# Altium footprint library PcbLib1.PcbLib: 36 footprints (part 2 of 3)
Each footprint in its own frame and in the unit in brackets; x right, y up, seen from the top. Pads: shape width x height; smd on the part's side, far side on the other; paste and mask are expansions set on the pad; w line width, h text height; cw(c..) or ccw(c..) is an arc to the next point about the centre after c.
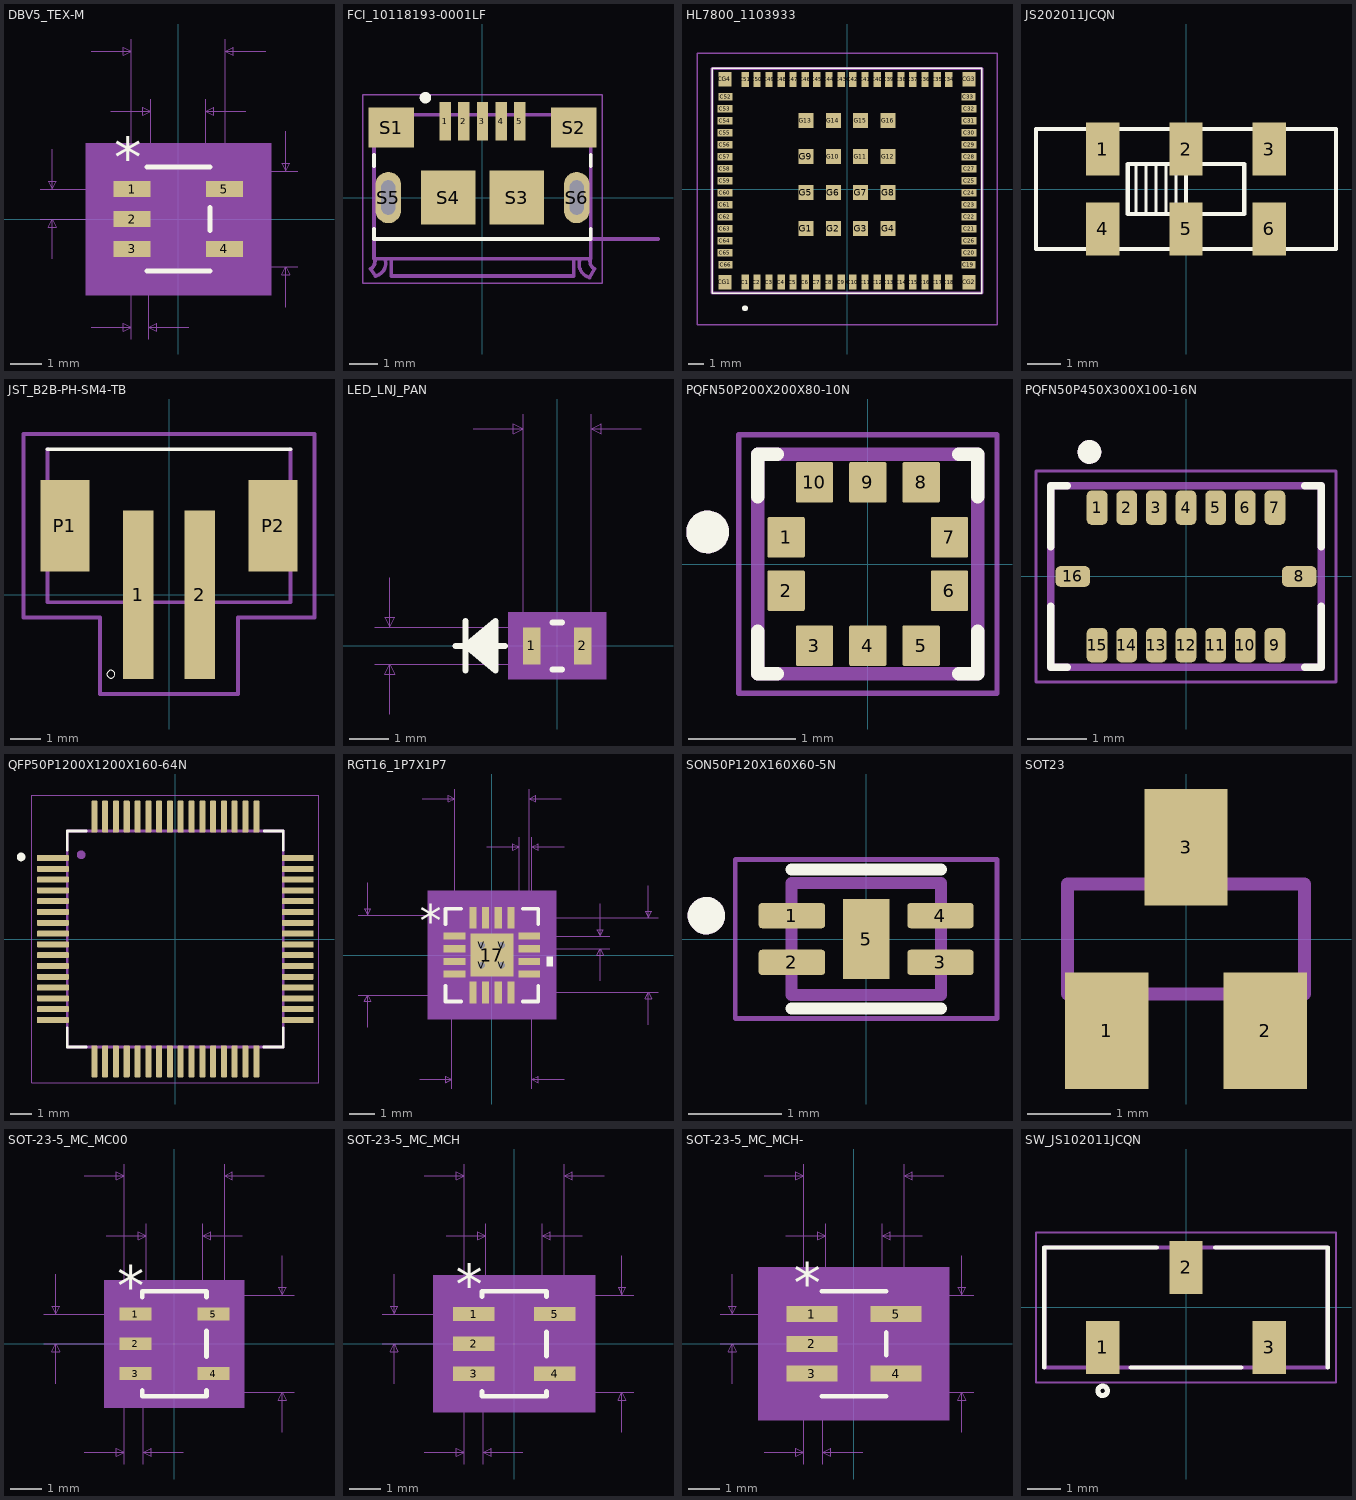
[diagram p1: the footprints below, top view; thin cyan lines are the x and y axes]

## DBV5_TEX-M [mil]
pads (5):
  rect 46.5x20 smd paste+0 mask+0: 1(-57.75,37.4) 2(-57.75,0) 3(-57.75,-37.4) 4(57.75,-37.4) 5(57.75,37.4)
Top Overlay:
  lines w6: -39.5,-65 39.5,-65 ; -39.5,65 39.5,65 ; 39.5,-14.3 39.5,14.3
  text "*" at -80.25,52.4 h50
Mechanical 5:
  region: 116,-95 -116,-95 -116,95 116,95
Mechanical 7:
  lines w1: -172.75,0 -57.75,0 ; -172.75,37.4 -57.75,37.4 ; -157.75,-50 -157.75,0 ; -157.75,87.4 -157.75,37.4 ; -109,-135 -59,-135 ; -109,210 -59,210 ; -84.5,135 -34.5,135 ; -59,-150 -59,0 -59,225 ; -37,-150 -37,0 ; -34.5,0 -34.5,150 ; 0,-60 149.5,-60 ; 0,60 149.5,60 ; 13,-135 -37,-135 ; 34.5,0 34.5,150 ; 59,0 59,225 ; 84.5,135 34.5,135 ; 109,210 59,210 ; 134.5,-110 134.5,-60 ; 134.5,110 134.5,60 ; -157.75,0 -162.75,-10 -152.75,-10 -157.75,0 ; -157.75,37.4 -162.75,47.4 -152.75,47.4 -157.75,37.4 ; -59,-135 -69,-130 -69,-140 -59,-135 ; -59,210 -69,215 -69,205 -59,210 ; -37,-135 -27,-130 -27,-140 -37,-135 ; -34.5,135 -44.5,140 -44.5,130 -34.5,135 ; 34.5,135 44.5,140 44.5,130 34.5,135 ; 59,210 69,215 69,205 59,210 ; 134.5,-60 129.5,-70 139.5,-70 134.5,-60 ; 134.5,60 129.5,70 139.5,70 134.5,60
  text "Default Padstyle: RX46p5Y20D0T" at -375,-260 h50
  text "Pin 1 Padstyle: RX46p5Y20D0T" at -350,-320 h50
  text "Alt 1 Padstyle: OX60Y90D30P" at -337.5,-500 h50
  text "Alt 2 Padstyle: OX90Y60D30P" at -337.5,-560 h50
  text "0.069in/1.753mm" at -93.75,155 h25
  text "0.118in/2.997mm" at -93.75,230 h25
  text "0.12in/3.048mm" at 154.5,-12.5 h25
  text "0.037in/0.95mm" at -352.75,6.2 h25
  text "0.022in/0.559mm" at -141.75,-180 h25
Mechanical 13:
  lines w0: -12,60 ccw(c0,60) 12,60
  lines w1: -59,-47.4 -59,-27.4 -34.5,-27.4 -34.5,-47.4 -59,-47.4 ; -59,-10 -59,10 -34.5,10 -34.5,-10 -59,-10 ; -59,27.4 -59,47.4 -34.5,47.4 -34.5,27.4 -59,27.4 ; -34.5,-60 34.5,-60 34.5,60 -34.5,60 -34.5,-60 ; 34.5,-47.4 34.5,-27.4 59,-27.4 59,-47.4 34.5,-47.4 ; 34.5,27.4 34.5,47.4 59,47.4 59,27.4 34.5,27.4
  text "*" at -37,14.4 h50
Mechanical 15:
  region: 54.5,-80 -54.5,-80 -54.5,-67.4 -101,-67.4 -101,67.4 -54.5,67.4 -54.5,80 54.5,80 54.5,67.4 101,67.4 101,-67.4 54.5,-67.4
  lines w6: -101,-67.4 -54.5,-67.4 -54.5,-80 54.5,-80 54.5,-67.4 101,-67.4 101,67.4 54.5,67.4 54.5,80 -54.5,80 -54.5,67.4 -101,67.4 -101,-67.4
3D body: height 10, standoff 0, extent 0,0 10,10

## FCI_10118193-0001LF [mm]
pads (13):
  rect 0.4x1.35 smd: 1(-1.3,2.675) 2(-0.65,2.675) 3(0,2.675) 4(0.65,2.675) 5(1.3,2.675)
  rect 1.6x1.4 smd: S1(-3.2,2.45) S2(3.2,2.45)
  rect 1.9x1.9 smd: S3(1.2,0) S4(-1.2,0)
  oval 0.9x1.8 hole 0.5 slot 1.2 at 90 deg: S5(-3.3,0) S6(3.3,0)
  round 0.5 hole 0.5 unplated: ""(-3.3,0) ""(3.3,0)
Top Overlay:
  circle w0.2: c-2,3.5 r0.1
  lines w0.127: -3.8,-1.45 3.8,-1.45 ; -3.8,-1.4 -3.8,-1.1 ; -3.8,1.1 -3.8,1.5 ; 3.8,-1.4 3.8,-1.1 ; 3.8,1.1 3.8,1.5
Mechanical 13:
  lines w0.127: -3.93,-2.5 -3.75,-2.75 ; -3.93,-2.5 ccw(c-4.065,-2.235) -3.8,-2.1 ; -3.746,-2.749 ccw(c-3.85,-2.3) -3.401,-2.196 ; -3.2,-2.2 -3.2,-2.75 3.2,-2.75 3.2,-2.2 ; 3.401,-2.198 ccw(c3.875,-2.325) 3.748,-2.799 ; 3.75,-2.8 3.93,-2.5 ; 3.8,-2.1 ccw(c4.065,-2.235) 3.93,-2.5 ; 6.15,-1.45 3.8,-1.45 ; -3.8,-2.1 -3.8,-2.15 3.8,-2.15 3.8,-1.45 ; -3.8,-2.1 -3.8,2.9 3.8,2.9 3.8,-1.45
  text "PCB END" at 4.75,-1.3 h0.41
Mechanical 15:
  lines w0.05: -4.2,-3 -4.2,3.6 4.2,3.6 4.2,-3 -4.2,-3

## HL7800_1103933 [mm]
pads (86):
  rect 0.5x1 smd: C1(-6.8,-6.215) C2(-6,-6.215) C3(-5.2,-6.215) C4(-4.4,-6.215) C5(-3.6,-6.215) C6(-2.8,-6.215) C7(-2,-6.215) C8(-1.2,-6.215) C9(-0.4,-6.215) C10(0.4,-6.215) C11(1.2,-6.215) C12(2,-6.215) C13(2.8,-6.215) C14(3.6,-6.215) C15(4.4,-6.215) C16(5.2,-6.215) C17(6,-6.215) C18(6.8,-6.215) C34(6.8,7.315) C35(6,7.315) C36(5.2,7.315) C37(4.4,7.315) C38(3.6,7.315) C39(2.8,7.315) C40(2,7.315) C41(1.2,7.315) C42(0.4,7.315) C43(-0.4,7.315) C44(-1.2,7.315) C45(-2,7.315) C46(-2.8,7.315) C47(-3.6,7.315) C48(-4.4,7.315) C49(-5.2,7.315) C50(-6,7.315) C51(-6.8,7.315)
  rect 0.92x0.5 smd: C19(8.1,-5.05) C33(8.1,6.15) C52(-8.1,6.15) C66(-8.1,-5.05)
  rect 1x0.5 smd: C20(8.14,-4.25) C21(8.14,-2.65) C22(8.14,-1.85) C23(8.14,-1.05) C24(8.14,-0.25) C25(8.14,0.55) C26(8.14,-3.45) C27(8.14,1.35) C28(8.14,2.15) C29(8.14,2.95) C30(8.14,3.75) C31(8.14,4.55) C32(8.14,5.35) C53(-8.14,5.35) C54(-8.14,4.55) C55(-8.14,3.75) C56(-8.14,2.95) C57(-8.14,2.15) C58(-8.14,1.35) C59(-8.14,0.55) C60(-8.14,-0.25) C61(-8.14,-1.05) C62(-8.14,-1.85) C63(-8.14,-2.65) C64(-8.14,-3.45) C65(-8.14,-4.25)
  rect 0.85x0.97 smd: CG1(-8.14,-6.215) CG2(8.14,-6.215) CG3(8.14,7.315) CG4(-8.14,7.315)
  rect 1x1 smd: G1(-2.737,-2.65) G2(-0.912,-2.65) G3(0.912,-2.65) G4(2.737,-2.65) G5(-2.737,-0.25) G6(-0.912,-0.25) G7(0.912,-0.25) G8(2.737,-0.25) G9(-2.737,2.15) G10(-0.912,2.15) G11(0.912,2.15) G12(2.737,2.15) G13(-2.737,4.55) G14(-0.912,4.55) G15(0.912,4.55) G16(2.737,4.55)
Top Overlay:
  lines w0.1: -9,-6.95 -9,8.05 9,8.05 9,-6.95 -9,-6.95
  lines w0.2: -6.9,-7.95 ccw(c-6.8,-7.95) -6.7,-7.95 ccw(c-6.8,-7.95) -6.9,-7.95
Mechanical 13:
  lines w0.2: -9,-6.95 -9,8.05 9,8.05 9,-6.95 -9,-6.95
Mechanical 15:
  lines w0.1: -10,-9.05 -10,9.05 10,9.05 10,-9.05 -10,-9.05
3D body "HL7800_1103933.stp": height 2.1, standoff 0, extent -9,-6.95 9,8.05

## JS202011JCQN [mm]
pads (6):
  rect 1x1.6 smd: 1(-2.5,1.2) 2(0,1.2) 3(2.5,1.2) 4(-2.5,-1.2) 5(0,-1.2) 6(2.5,-1.2)
Top Overlay:
  lines w0.09: -1.5,-0.75 -1.5,0.75 ; -1.2,-0.75 -1.2,0.75 ; -0.9,-0.75 -0.9,0.75 ; -0.6,-0.75 -0.6,0.75 ; -0.3,-0.75 -0.3,0.75
  lines w0.127: 0,-0.75 0,0.75 ; 0,-0.75 -0.3,-0.75 -0.6,-0.75 -0.9,-0.75 -1.2,-0.75 -1.5,-0.75 -1.75,-0.75 -1.75,0.75 -1.5,0.75 -1.2,0.75 -0.9,0.75 -0.6,0.75 -0.3,0.75 0,0.75 ; 0,-0.75 1.75,-0.75 1.75,0.75 0,0.75 ; -4.5,-1.8 4.5,-1.8 4.5,1.8 -4.5,1.8 -4.5,-1.8

## JST_B2B-PH-SM4-TB [mm]
pads (4):
  rect 1x5.5 smd: 1(-1,0) 2(1,0)
  rect 1.6x3 smd: P1(-3.4,2.25) P2(3.4,2.25)
Top Overlay:
  circle w0: c-1.9,-2.6 r0.127
  lines w0.127: -3.975,4.75 3.975,4.75
Mechanical 13:
  lines w0.127: -3.975,4.75 -3.975,-0.25 3.975,-0.25 3.975,4.75
Mechanical 15:
  lines w0.127: -4.75,-0.75 -4.75,5.25 4.75,5.25 4.75,-0.75 2.25,-0.75 2.25,-3.25 -2.25,-3.25 -2.25,-0.75 -4.75,-0.75
3D body "B2B-PH-SM4-TB(LF)(SN)--3DModel-STEP-56544.STEP": height 6.73, standoff -0.02, extent -3.95,-2.163 4,4.837

## LED_LNJ_PAN [mm] "blue"
pads (2):
  rect 0.445x0.95 smd paste+0 mask+0: 1(-0.653,0) 2(0.653,0)
Top Overlay:
  lines w0.152: -2.602,0 -1.332,0 ; -2.348,-0.635 -2.348,0.635 ; -1.586,-0.508 -2.348,0 ; -1.586,-0.381 -2.348,0 ; -1.586,-0.254 -2.348,0 ; -1.586,-0.127 -2.348,0 ; -1.586,0.127 -2.348,0 ; -1.586,0.254 -2.348,0 ; -1.586,0.381 -2.348,0 ; -1.586,0.508 -2.348,0 ; -0.122,-0.602 0.122,-0.602 ; -0.122,0.602 0.122,0.602 ; -2.348,0 -1.586,-0.635 -1.586,0.635 -2.348,0
Mechanical 5:
  region: 1.256,-0.856 -1.256,-0.856 -1.256,0.856 1.256,0.856
Mechanical 7:
  lines w0.025: -4.666,-0.475 1.129,-0.475 ; -4.666,0.475 1.129,0.475 ; -4.285,-1.745 -4.285,-0.475 ; -4.285,1.745 -4.285,0.475 ; -2.145,5.555 -0.875,5.555 ; -0.875,0.729 -0.875,5.936 ; 0.875,0.729 0.875,5.936 ; 2.145,5.555 0.875,5.555 ; -4.285,-0.475 -4.158,-0.729 -4.412,-0.729 -4.285,-0.475 ; -4.285,0.475 -4.158,0.729 -4.412,0.729 -4.285,0.475 ; -0.875,5.555 -1.129,5.428 -1.129,5.682 -0.875,5.555 ; 0.875,5.555 1.129,5.428 1.129,5.682 0.875,5.555
  text "0.037in/0.95mm" at -9.238,-0.318 h0.64
  text "0.069in/1.75mm" at -2.222,6.063 h0.64
  text "Alt 2 Pad Style: EX90Y60D30P" at -8.89,-8.349 h1.27
  text "Alt 1 Pad Style: OX60Y90D30P" at -8.89,-7.079 h1.27
  text "Default Pad Style: RX17p52Y37p4D0T" at -10.795,-5.809 h1.27
Mechanical 13:
  lines w0.025: -2.602,0 -1.332,0 ; -2.348,-0.635 -2.348,0.635 ; -1.586,-0.508 -2.348,0 ; -1.586,-0.381 -2.348,0 ; -1.586,-0.254 -2.348,0 ; -1.586,-0.127 -2.348,0 ; -1.586,0.127 -2.348,0 ; -1.586,0.254 -2.348,0 ; -1.586,0.381 -2.348,0 ; -1.586,0.508 -2.348,0 ; -2.348,0 -1.586,-0.635 -1.586,0.635 -2.348,0 ; -0.875,-0.475 -0.875,0.475 0.875,0.475 0.875,-0.475 -0.875,-0.475
Mechanical 15:
  region: -1.129,-0.729 -1.129,0.729 1.129,0.729 1.129,-0.729
  lines w0.152: -1.129,-0.729 1.129,-0.729 1.129,0.729 -1.129,0.729 -1.129,-0.729
3D body: height 0.25, standoff 0, extent 0,0 0.254,0.254
3D body "LTST-C190KRKT--3DModel-STEP-56544.STEP": height 0.8, standoff 0, extent -0.8,-0.4 0.8,0.4

## PQFN50P200X200X80-10N [mm]
pads (10):
  rrect9% 0.35x0.38 smd: 1(-0.765,0.25) 2(-0.765,-0.25) 3(-0.5,-0.765) 4(0,-0.765) 5(0.5,-0.765) 6(0.765,-0.25) 7(0.765,0.25) 8(0.5,0.765) 9(0,0.765) 10(-0.5,0.765)
Top Overlay:
  circle w0.2: c-1.5,0.3 r0.1
  lines w0.127: -1.03,-0.63 -1.03,-1.03 -0.85,-1.03 ; -1.03,0.63 -1.03,1.03 -0.85,1.03 ; 0.85,-1.03 1.03,-1.03 1.03,-0.63 ; 0.85,1.03 1.03,1.03 1.03,0.63
Mechanical 13:
  circle w0.2: c-1.5,0.3 r0.1
  lines w0.127: -1.03,-1.03 1.03,-1.03 1.03,1.03 -1.03,1.03 -1.03,-1.03
Mechanical 15:
  lines w0.05: -1.21,-1.21 1.21,-1.21 1.21,1.21 -1.21,1.21 -1.21,-1.21
3D body "BMP388--3DModel-STEP-56544.STEP": height 0.8, standoff 0, extent -1,-0.991 1,1.009

## PQFN50P450X300X100-16N [mm]
pads (16):
  rrect50% 0.35x0.58 smd: 1(-1.5,1.16) 2(-1,1.16) 3(-0.5,1.16) 4(0,1.16) 5(0.5,1.16) 6(1,1.16) 7(1.5,1.16) 9(1.5,-1.16) 10(1,-1.16) 11(0.5,-1.16) 12(0,-1.16) 13(-0.5,-1.16) 14(-1,-1.16) 15(-1.5,-1.16)
  rrect50% 0.58x0.35 smd: 8(1.91,0) 16(-1.91,0)
Top Overlay:
  circle w0.2: c-1.629,2.1 r0.1
  lines w0.127: -2.28,-0.5 -2.28,-1.53 -2,-1.53 ; -2.28,0.5 -2.28,1.53 -2,1.53 ; 2,-1.53 2.28,-1.53 2.28,-0.5 ; 2,1.53 2.28,1.53 2.28,0.5
Mechanical 13:
  circle w0.2: c-1.629,2.1 r0.1
  lines w0.127: -2.28,-1.53 -2.28,1.53 2.28,1.53 2.28,-1.53 -2.28,-1.53
Mechanical 15:
  lines w0.05: -2.53,-1.78 -2.53,1.78 2.53,1.78 2.53,-1.78 -2.53,-1.78
3D body "BMI088--3DModel-STEP-56544.STEP": height 1, standoff 0, extent -2.25,-1.5 2.25,1.5

## QFP50P1200X1200X160-64N [mm]
pads (64):
  rrect25% 1.47x0.28 smd: 1(-5.67,3.75) 2(-5.67,3.25) 3(-5.67,2.75) 4(-5.67,2.25) 5(-5.67,1.75) 6(-5.67,1.25) 7(-5.67,0.75) 8(-5.67,0.25) 9(-5.67,-0.25) 10(-5.67,-0.75) 11(-5.67,-1.25) 12(-5.67,-1.75) 13(-5.67,-2.25) 14(-5.67,-2.75) 15(-5.67,-3.25) 16(-5.67,-3.75) 33(5.67,-3.75) 34(5.67,-3.25) 35(5.67,-2.75) 36(5.67,-2.25) 37(5.67,-1.75) 38(5.67,-1.25) 39(5.67,-0.75) 40(5.67,-0.25) 41(5.67,0.25) 42(5.67,0.75) 43(5.67,1.25) 44(5.67,1.75) 45(5.67,2.25) 46(5.67,2.75) 47(5.67,3.25) 48(5.67,3.75)
  rrect25% 0.28x1.47 smd: 17(-3.75,-5.67) 18(-3.25,-5.67) 19(-2.75,-5.67) 20(-2.25,-5.67) 21(-1.75,-5.67) 22(-1.25,-5.67) 23(-0.75,-5.67) 24(-0.25,-5.67) 25(0.25,-5.67) 26(0.75,-5.67) 27(1.25,-5.67) 28(1.75,-5.67) 29(2.25,-5.67) 30(2.75,-5.67) 31(3.25,-5.67) 32(3.75,-5.67) 49(3.75,5.67) 50(3.25,5.67) 51(2.75,5.67) 52(2.25,5.67) 53(1.75,5.67) 54(1.25,5.67) 55(0.75,5.67) 56(0.25,5.67) 57(-0.25,5.67) 58(-0.75,5.67) 59(-1.25,5.67) 60(-1.75,5.67) 61(-2.25,5.67) 62(-2.75,5.67) 63(-3.25,5.67) 64(-3.75,5.67)
Top Overlay:
  circle w0.2: c-7.14,3.8 r0.1
  lines w0.127: -5,-4.125 -5,-5 -4.125,-5 ; -5,4.125 -5,5 -4.125,5 ; 4.092,-5 5,-5 5,-4.125 ; 4.125,5 5,5 5,4.125
Mechanical 13:
  circle w0.2: c-4.36,3.9 r0.1
  lines w0.127: -5,-5 5,-5 5,5 -5,5 -5,-5
Mechanical 15:
  lines w0.05: -6.655,-6.655 6.655,-6.655 6.655,6.655 -6.655,6.655 -6.655,-6.655
3D body "STM32F446RET6--3DModel-STEP-56544.STEP": height 1.61, standoff 0.01, extent -6,-6 6,6

## RGT16_1P7X1P7 [mm]
pads (21):
  rect 0.85x0.28 smd paste-0.14: 1(-1.475,0.75) 2(-1.475,0.25) 3(-1.475,-0.25) 4(-1.475,-0.75) 9(1.475,-0.75) 10(1.475,-0.25) 11(1.475,0.25) 12(1.475,0.75)
  rect 0.28x0.85 smd paste-0.14: 5(-0.75,-1.475) 6(-0.25,-1.475) 7(0.25,-1.475) 8(0.75,-1.475) 13(0.75,1.475) 14(0.25,1.475) 15(-0.25,1.475) 16(-0.75,1.475)
  rect 1.7x1.7 smd paste-0.837 mask-0.838: 17(0,0)
  round 0.508 hole 0.254: V(-0.394,-0.394) V(-0.394,0.394) V(0.394,-0.394) V(0.394,0.394)
Top Overlay:
  region: 2.154,-0.059 2.408,-0.059 2.408,-0.44 2.154,-0.44
  lines w0.152: -1.829,-1.223 -1.829,-1.829 -1.223,-1.829 ; -1.829,1.223 -1.829,1.829 -1.223,1.829 ; 1.223,-1.829 1.829,-1.829 1.829,-1.223 ; 1.223,1.829 1.829,1.829 1.829,1.223
  text "*" at -2.852,0.746 h1.27
Top Paste:
  region: -1.075,0.865 -1.875,0.865 -1.875,0.635 -1.075,0.635
  region: -1.075,0.365 -1.875,0.365 -1.875,0.135 -1.075,0.135
  region: -1.075,-0.135 -1.875,-0.135 -1.875,-0.365 -1.075,-0.365
  region: -1.075,-0.635 -1.875,-0.635 -1.875,-0.865 -1.075,-0.865
  region: -0.635,-1.075 -0.865,-1.075 -0.865,-1.875 -0.635,-1.875
  region: -0.135,-1.075 -0.365,-1.075 -0.365,-1.875 -0.135,-1.875
  region: 0.365,-1.075 0.135,-1.075 0.135,-1.875 0.365,-1.875
  region: 0.865,-1.075 0.635,-1.075 0.635,-1.875 0.865,-1.875
  region: 1.875,-0.635 1.075,-0.635 1.075,-0.865 1.875,-0.865
  region: 1.875,-0.135 1.075,-0.135 1.075,-0.365 1.875,-0.365
  region: 1.875,0.365 1.075,0.365 1.075,0.135 1.875,0.135
  region: 1.875,0.865 1.075,0.865 1.075,0.635 1.875,0.635
  region: 0.865,1.875 0.635,1.875 0.635,1.075 0.865,1.075
  region: 0.365,1.875 0.135,1.875 0.135,1.075 0.365,1.075
  region: -0.135,1.875 -0.365,1.875 -0.365,1.075 -0.135,1.075
  region: -0.635,1.875 -0.865,1.875 -0.865,1.075 -0.635,1.075
  region: -0.494,0.775 -0.775,0.775 -0.775,0.494 -0.635,0.494 -0.494,0.635
  region: -0.635,0.294 -0.775,0.294 -0.775,-0.294 -0.635,-0.294 -0.494,-0.152 -0.494,0.152
  region: -0.635,-0.494 -0.775,-0.494 -0.775,-0.775 -0.494,-0.775 -0.494,-0.635
  region: 0.294,0.775 -0.294,0.775 -0.294,0.635 -0.152,0.494 0.152,0.494 0.294,0.635
  region: 0.152,0.294 -0.152,0.294 -0.294,0.152 -0.294,-0.152 -0.152,-0.294 0.152,-0.294 0.294,-0.152 0.294,0.152
  region: 0.152,-0.494 -0.152,-0.494 -0.294,-0.635 -0.294,-0.775 0.294,-0.775 0.294,-0.635
  region: 0.775,0.775 0.494,0.775 0.494,0.635 0.635,0.494 0.775,0.494
  region: 0.775,0.294 0.635,0.294 0.494,0.152 0.494,-0.152 0.635,-0.294 0.775,-0.294
  region: 0.775,-0.494 0.635,-0.494 0.494,-0.635 0.494,-0.775 0.775,-0.775
Top Solder:
  region: -0.98,0.96 -1.97,0.96 -1.97,0.54 -0.98,0.54
  region: -0.98,0.46 -1.97,0.46 -1.97,0.04 -0.98,0.04
  region: -0.98,-0.04 -1.97,-0.04 -1.97,-0.46 -0.98,-0.46
  region: -0.98,-0.54 -1.97,-0.54 -1.97,-0.96 -0.98,-0.96
  region: -0.541,-0.98 -0.96,-0.98 -0.96,-1.97 -0.541,-1.97
  region: -0.04,-0.98 -0.46,-0.98 -0.46,-1.97 -0.04,-1.97
  region: 0.46,-0.98 0.04,-0.98 0.04,-1.97 0.46,-1.97
  region: 0.96,-0.98 0.541,-0.98 0.541,-1.97 0.96,-1.97
  region: 1.97,-0.54 0.98,-0.54 0.98,-0.96 1.97,-0.96
  region: 1.97,-0.04 0.98,-0.04 0.98,-0.46 1.97,-0.46
  region: 1.97,0.46 0.98,0.46 0.98,0.04 1.97,0.04
  region: 1.97,0.96 0.98,0.96 0.98,0.54 1.97,0.54
  region: 0.96,1.97 0.541,1.97 0.541,0.98 0.96,0.98
  region: 0.46,1.97 0.04,1.97 0.04,0.98 0.46,0.98
  region: -0.04,1.97 -0.46,1.97 -0.46,0.98 -0.04,0.98
  region: -0.541,1.97 -0.96,1.97 -0.96,0.98 -0.541,0.98
  region: -0.914,0.594 -0.914,0.914 0.914,0.914 0.914,0.594
  region: -0.914,-0.194 -0.914,0.194 0.914,0.194 0.914,-0.194
  region: -0.914,-0.914 -0.914,-0.594 0.914,-0.594 0.914,-0.914
  region: -0.914,-0.914 -0.914,0.914 -0.594,0.914 -0.594,-0.914
  region: 0.194,-0.914 0.194,0.914 -0.194,0.914 -0.194,-0.914
  region: 0.594,-0.914 0.594,0.914 0.914,0.914 0.914,-0.914
Mechanical 5:
  region: 2.535,-2.535 -2.535,-2.535 -2.535,2.535 2.535,2.535
Mechanical 7:
  lines w0.025: -5.281,-1.575 1.575,-1.575 ; -5.281,1.575 1.575,1.575 1.575,-5.281 ; -4.9,-2.845 -4.9,-1.575 ; -4.9,2.845 -4.9,1.575 ; -2.845,-4.9 -1.575,-4.9 ; -2.745,6.17 -1.475,6.17 ; -1.575,-5.281 -1.575,1.575 ; -1.475,0.75 -1.475,6.551 ; -0.195,4.265 1.075,4.265 ; 0.75,-1.475 6.551,-1.475 ; 0.75,1.475 6.551,1.475 ; 1.075,0.75 1.075,4.646 ; 1.475,0.25 4.646,0.25 ; 1.475,6.551 1.475,0.75 4.646,0.75 ; 1.575,0.75 1.575,4.646 ; 2.745,6.17 1.475,6.17 ; 2.845,-4.9 1.575,-4.9 ; 2.845,4.265 1.575,4.265 ; 4.265,-1.02 4.265,0.25 ; 4.265,2.02 4.265,0.75 ; 6.17,-2.745 6.17,-1.475 ; 6.17,2.745 6.17,1.475 ; -4.9,-1.575 -5.027,-1.829 -4.773,-1.829 -4.9,-1.575 ; -4.9,1.575 -5.027,1.829 -4.773,1.829 -4.9,1.575 ; -1.575,-4.9 -1.829,-4.773 -1.829,-5.027 -1.575,-4.9 ; -1.475,6.17 -1.729,6.297 -1.729,6.043 -1.475,6.17 ; 1.075,4.265 0.821,4.392 0.821,4.138 1.075,4.265 ; 1.475,6.17 1.729,6.297 1.729,6.043 1.475,6.17 ; 1.575,-4.9 1.829,-4.773 1.829,-5.027 1.575,-4.9 ; 1.575,4.265 1.829,4.392 1.829,4.138 1.575,4.265 ; 4.265,0.25 4.138,-0.004 4.392,-0.004 4.265,0.25 ; 4.265,0.75 4.138,1.004 4.392,1.004 4.265,0.75 ; 6.17,-1.475 6.043,-1.729 6.297,-1.729 6.17,-1.475 ; 6.17,1.475 6.043,1.729 6.297,1.729 6.17,1.475
  text "Default Padstyle: RX11p02Y33p46D0T" at -10.795,-8.075 h1.27
  text "Alt 1 Padstyle: OX60Y90D30P" at -8.572,-10.615 h1.27
  text "Alt 2 Padstyle: OX90Y60D30P" at -8.572,-13.155 h1.27
  text "1.968504E-02in/.5mm" at 4.773,0.182 h0.64
  text "1.968504E-02in/.5mm" at -1.691,4.773 h0.64
  text ".1161417in/2.95mm" at -2.699,6.678 h0.64
  text ".1161417in/2.95mm" at 6.678,-0.318 h0.64
  text ".1240157in/3.15mm" at -10.806,-0.318 h0.64
  text ".1240157in/3.15mm" at -2.699,-6.043 h0.64
Mechanical 13:
  lines w0.025: -1.575,0.305 -0.305,1.575 ; -1.575,-1.575 1.575,-1.575 1.575,1.575 -1.575,1.575 -1.575,-1.575 ; -1.575,-0.9 -1.575,-0.6 -1.575,-0.9 ; -1.575,-0.4 -1.575,-0.1 -1.575,-0.4 ; -1.575,0.1 -1.575,0.4 -1.575,0.1 ; -1.575,0.6 -1.575,0.9 -1.575,0.6 ; -0.9,-1.575 -0.6,-1.575 -0.9,-1.575 ; -0.9,1.575 -0.6,1.575 -0.9,1.575 ; -0.4,-1.575 -0.1,-1.575 -0.4,-1.575 ; -0.4,1.575 -0.1,1.575 -0.4,1.575 ; 0.1,-1.575 0.4,-1.575 0.1,-1.575 ; 0.1,1.575 0.4,1.575 0.1,1.575 ; 0.6,-1.575 0.9,-1.575 0.6,-1.575 ; 0.6,1.575 0.9,1.575 0.6,1.575 ; 1.575,-0.9 1.575,-0.6 1.575,-0.9 ; 1.575,-0.4 1.575,-0.1 1.575,-0.4 ; 1.575,0.1 1.575,0.4 1.575,0.1 ; 1.575,0.6 1.575,0.9 1.575,0.6
  text "*" at -2.852,0.746 h1.27
Mechanical 15:
  region: 2.154,-2.154 -2.154,-2.154 -2.154,2.154 2.154,2.154
  lines w0.152: -2.154,-2.154 -2.154,2.154 2.154,2.154 2.154,-2.154 -2.154,-2.154
3D body: height 0.25, standoff 0, extent 0,0 0.254,0.254
3D body "RGT0016C.stp": height 1, standoff 0, extent -1.5,-1.525 1.5,1.475

## SON50P120X160X60-5N [mm]
pads (5):
  rrect25% 0.71x0.27 smd: 1(-0.795,0.25) 2(-0.795,-0.25) 3(0.795,-0.25) 4(0.795,0.25)
  rect 0.5x0.86 smd paste-1: 5(0,0)
Top Overlay:
  circle w0.2: c-1.71,0.25 r0.1
  lines w0.127: -0.8,-0.744 0.8,-0.744 ; -0.8,0.744 0.8,0.744
Top Paste:
  region: 0.16,-0.27 -0.16,-0.27 -0.16,0.27 0.16,0.27
Mechanical 13:
  circle w0.2: c-1.71,0.25 r0.1
  lines w0.127: -0.8,-0.6 -0.8,0.6 0.8,0.6 0.8,-0.6 -0.8,-0.6
Mechanical 15:
  lines w0.05: -1.4,-0.85 -1.4,0.85 1.4,0.85 1.4,-0.85 -1.4,-0.85
3D body "SIP32432DNP3-T1GE4--3DModel-STEP-56544.STEP": height 0.55, standoff -0.05, extent -0.814,-0.6 0.786,0.6

## SOT23 [mm]
pads (3):
  rect 1x1.4 smd: 1(-0.95,-1.1) 2(0.95,-1.1) 3(0,1.1)
Mechanical 13:
  region: 0.229,0.711 -0.229,0.711 -0.229,1.295 0.229,1.295
  region: 1.168,-1.297 0.712,-1.297 0.712,-0.711 1.168,-0.711
  region: -0.711,-1.297 -1.17,-1.297 -1.17,-0.711 -0.711,-0.711
  lines w0.152: -1.422,-0.66 1.422,-0.66 1.422,0.66 -1.422,0.66 -1.422,-0.66
3D body "2N7002--3DModel-STEP-56544.STEP": height 1.24, standoff -0.01, extent -1.463,-1.527 1.463,1.273

## SOT-23-5_MC_MC00 [mil]
pads (5):
  rect 40x16 smd paste+0 mask+0: 1(-49,37.4) 2(-49,0) 3(-49,-37.4) 4(49,-37.4) 5(49,37.4)
Top Overlay:
  lines w6: -40.5,-58.5 -40.5,-66 40.5,-66 40.5,-58.5 ; -40.5,58.5 -40.5,66 40.5,66 40.5,58.5 ; 40.5,-16.3 40.5,16.3
  text "*" at -71.5,48.4 h50
Mechanical 5:
  region: 88,-80 -88,-80 -88,80 88,80
Mechanical 7:
  lines w1: -164,0 -49,0 ; -164,37.4 -49,37.4 ; -149,-50 -149,0 ; -149,87.4 -149,37.4 ; -113,-136 -63,-136 ; -113,211 -63,211 ; -85.5,136 -35.5,136 ; -63,-151 -63,0 -63,226 ; -39,-151 -39,0 ; -35.5,0 -35.5,151 ; 0,-61 150.5,-61 ; 0,61 150.5,61 ; 11,-136 -39,-136 ; 35.5,0 35.5,151 ; 63,0 63,226 ; 85.5,136 35.5,136 ; 113,211 63,211 ; 135.5,-111 135.5,-61 ; 135.5,111 135.5,61 ; -149,0 -144,-10 -154,-10 -149,0 ; -149,37.4 -144,47.4 -154,47.4 -149,37.4 ; -63,-136 -73,-141 -73,-131 -63,-136 ; -63,211 -73,206 -73,216 -63,211 ; -39,-136 -29,-141 -29,-131 -39,-136 ; -35.5,136 -45.5,131 -45.5,141 -35.5,136 ; 35.5,136 45.5,131 45.5,141 35.5,136 ; 63,211 73,206 73,216 63,211 ; 135.5,-61 140.5,-71 130.5,-71 135.5,-61 ; 135.5,61 140.5,71 130.5,71 135.5,61
  text "0.024in/0.61mm" at -138.5,-181 h25
  text "0.037in/0.95mm" at -344,6.2 h25
  text "0.122in/3.099mm" at 155.5,-12.5 h25
  text "0.126in/3.2mm" at -81.25,231 h25
  text "0.071in/1.803mm" at -93.75,156 h25
  text "Alt 2 Padstyle: OX90Y60D30P" at -337.5,-561 h50
  text "Alt 1 Padstyle: OX60Y90D30P" at -337.5,-501 h50
  text "Pin 1 Padstyle: RX40Y16D0T" at -325,-321 h50
  text "Default Padstyle: RX40Y16D0T" at -350,-261 h50
Mechanical 13:
  lines w0: -12,61 ccw(c0,61) 12,61
  lines w1: -63,-47.4 -35.5,-47.4 -35.5,-27.4 -63,-27.4 -63,-47.4 ; -63,-10 -35.5,-10 -35.5,10 -63,10 -63,-10 ; -63,27.4 -35.5,27.4 -35.5,47.4 -63,47.4 -63,27.4 ; -35.5,-61 -35.5,61 35.5,61 35.5,-61 -35.5,-61 ; 35.5,-47.4 63,-47.4 63,-27.4 35.5,-27.4 35.5,-47.4 ; 35.5,27.4 63,27.4 63,47.4 35.5,47.4 35.5,27.4
  text "*" at -38,10.4 h50
Mechanical 15:
  region: 39.5,-65 -39.5,-65 -39.5,-49.4 -73,-49.4 -73,49.4 -39.5,49.4 -39.5,65 39.5,65 39.5,49.4 73,49.4 73,-49.4 39.5,-49.4
  lines w6: -73,-49.4 -73,49.4 -39.5,49.4 -39.5,65 39.5,65 39.5,49.4 73,49.4 73,-49.4 39.5,-49.4 39.5,-65 -39.5,-65 -39.5,-49.4 -73,-49.4
3D body: height 10, standoff 0, extent 0,0 10,10

## SOT-23-5_MC_MCH [mil]
pads (5):
  rect 52x18 smd paste+0 mask+0: 1(-51,37.4) 2(-51,0) 3(-51,-37.4) 4(51,-37.4) 5(51,37.4)
Top Overlay:
  lines w6: -40.5,-59.5 -40.5,-66 40.5,-66 40.5,-59.5 ; -40.5,59.5 -40.5,66 40.5,66 40.5,59.5 ; 40.5,-15.3 40.5,15.3
  text "*" at -73.5,50.4 h50
Mechanical 5:
  region: 102,-86 -102,-86 -102,86 102,86
Mechanical 7:
  lines w1: -166,0 -51,0 ; -166,37.4 -51,37.4 ; -151,-50 -151,0 ; -151,87.4 -151,37.4 ; -113,-136 -63,-136 ; -113,211 -63,211 ; -85.5,136 -35.5,136 ; -63,-151 -63,0 -63,226 ; -39,-151 -39,0 ; -35.5,0 -35.5,151 ; 0,-61 150.5,-61 ; 0,61 150.5,61 ; 11,-136 -39,-136 ; 35.5,0 35.5,151 ; 63,0 63,226 ; 85.5,136 35.5,136 ; 113,211 63,211 ; 135.5,-111 135.5,-61 ; 135.5,111 135.5,61 ; -151,0 -146,-10 -156,-10 -151,0 ; -151,37.4 -146,47.4 -156,47.4 -151,37.4 ; -63,-136 -73,-141 -73,-131 -63,-136 ; -63,211 -73,206 -73,216 -63,211 ; -39,-136 -29,-141 -29,-131 -39,-136 ; -35.5,136 -45.5,131 -45.5,141 -35.5,136 ; 35.5,136 45.5,131 45.5,141 35.5,136 ; 63,211 73,206 73,216 63,211 ; 135.5,-61 140.5,-71 130.5,-71 135.5,-61 ; 135.5,61 140.5,71 130.5,71 135.5,61
  text "0.024in/0.61mm" at -138.5,-181 h25
  text "0.037in/0.95mm" at -346,6.2 h25
  text "0.122in/3.099mm" at 155.5,-12.5 h25
  text "0.126in/3.2mm" at -81.25,231 h25
  text "0.071in/1.803mm" at -93.75,156 h25
  text "Alt 2 Padstyle: OX90Y60D30P" at -337.5,-561 h50
  text "Alt 1 Padstyle: OX60Y90D30P" at -337.5,-501 h50
  text "Pin 1 Padstyle: RX52Y18D0T" at -325,-321 h50
  text "Default Padstyle: RX52Y18D0T" at -350,-261 h50
Mechanical 13:
  lines w0: -12,61 ccw(c0,61) 12,61
  lines w1: -63,-47.4 -35.5,-47.4 -35.5,-27.4 -63,-27.4 -63,-47.4 ; -63,-10 -35.5,-10 -35.5,10 -63,10 -63,-10 ; -63,27.4 -35.5,27.4 -35.5,47.4 -63,47.4 -63,27.4 ; -35.5,-61 -35.5,61 35.5,61 35.5,-61 -35.5,-61 ; 35.5,-47.4 63,-47.4 63,-27.4 35.5,-27.4 35.5,-47.4 ; 35.5,27.4 63,27.4 63,47.4 35.5,47.4 35.5,27.4
  text "*" at -38,12.4 h50
Mechanical 15:
  region: 45.5,-71 -45.5,-71 -45.5,-56.4 -87,-56.4 -87,56.4 -45.5,56.4 -45.5,71 45.5,71 45.5,56.4 87,56.4 87,-56.4 45.5,-56.4
  lines w6: -87,-56.4 -87,56.4 -45.5,56.4 -45.5,71 45.5,71 45.5,56.4 87,56.4 87,-56.4 45.5,-56.4 45.5,-71 -45.5,-71 -45.5,-56.4 -87,-56.4
3D body "SOT-23-5_MC_MCH-M.step": height 57.09, standoff 0, extent -61.99,-60.98 64,61

## SOT-23-5_MC_MCH- [mil]
pads (5):
  rect 64x20 smd paste+0 mask+0: 1(-53,37.4) 2(-53,0) 3(-53,-37.4) 4(53,-37.4) 5(53,37.4)
Top Overlay:
  lines w6: -40.5,-66 40.5,-66 ; -40.5,66 40.5,66 ; 40.5,-14.3 40.5,14.3
  text "*" at -75.5,52.4 h50
Mechanical 5:
  region: 120,-96 -120,-96 -120,96 120,96
Mechanical 7:
  lines w1: -168,0 -53,0 ; -168,37.4 -53,37.4 ; -153,-50 -153,0 ; -153,87.4 -153,37.4 ; -113,-136 -63,-136 ; -113,211 -63,211 ; -85.5,136 -35.5,136 ; -63,-151 -63,0 -63,226 ; -39,-151 -39,0 ; -35.5,0 -35.5,151 ; 0,-61 150.5,-61 ; 0,61 150.5,61 ; 11,-136 -39,-136 ; 35.5,0 35.5,151 ; 63,0 63,226 ; 85.5,136 35.5,136 ; 113,211 63,211 ; 135.5,-111 135.5,-61 ; 135.5,111 135.5,61 ; -153,0 -148,-10 -158,-10 -153,0 ; -153,37.4 -148,47.4 -158,47.4 -153,37.4 ; -63,-136 -73,-141 -73,-131 -63,-136 ; -63,211 -73,206 -73,216 -63,211 ; -39,-136 -29,-141 -29,-131 -39,-136 ; -35.5,136 -45.5,131 -45.5,141 -35.5,136 ; 35.5,136 45.5,131 45.5,141 35.5,136 ; 63,211 73,206 73,216 63,211 ; 135.5,-61 140.5,-71 130.5,-71 135.5,-61 ; 135.5,61 140.5,71 130.5,71 135.5,61
  text "0.024in/0.61mm" at -138.5,-181 h25
  text "0.037in/0.95mm" at -348,6.2 h25
  text "0.122in/3.099mm" at 155.5,-12.5 h25
  text "0.126in/3.2mm" at -81.25,231 h25
  text "0.071in/1.803mm" at -93.75,156 h25
  text "Alt 2 Padstyle: OX90Y60D30P" at -337.5,-561 h50
  text "Alt 1 Padstyle: OX60Y90D30P" at -337.5,-501 h50
  text "Pin 1 Padstyle: RX64Y20D0T" at -325,-321 h50
  text "Default Padstyle: RX64Y20D0T" at -350,-261 h50
Mechanical 13:
  lines w0: -12,61 ccw(c0,61) 12,61
  lines w1: -63,-47.4 -35.5,-47.4 -35.5,-27.4 -63,-27.4 -63,-47.4 ; -63,-10 -35.5,-10 -35.5,10 -63,10 -63,-10 ; -63,27.4 -35.5,27.4 -35.5,47.4 -63,47.4 -63,27.4 ; -35.5,-61 -35.5,61 35.5,61 35.5,-61 -35.5,-61 ; 35.5,-47.4 63,-47.4 63,-27.4 35.5,-27.4 35.5,-47.4 ; 35.5,27.4 63,27.4 63,47.4 35.5,47.4 35.5,27.4
  text "*" at -38,14.4 h50
Mechanical 15:
  region: 55.5,-81 -55.5,-81 -55.5,-67.4 -105,-67.4 -105,67.4 -55.5,67.4 -55.5,81 55.5,81 55.5,67.4 105,67.4 105,-67.4 55.5,-67.4
  lines w6: -105,-67.4 -105,67.4 -55.5,67.4 -55.5,81 55.5,81 55.5,67.4 105,67.4 105,-67.4 55.5,-67.4 55.5,-81 -55.5,-81 -55.5,-67.4 -105,-67.4
3D body: height 10, standoff 0, extent 0,0 10,10

## SW_JS102011JCQN [mm]
pads (3):
  rect 1x1.6 smd: 1(-2.5,-1.2) 2(0,1.2) 3(2.5,-1.2)
Top Overlay:
  circle w0.152: c-2.5,-2.5 r0.141
  lines w0.127: -4.25,-1.8 -4.25,1.8 -0.88,1.8 ; -1.66,-1.8 1.66,-1.8 ; 0.88,1.8 4.25,1.8 4.25,-1.8
Mechanical 13:
  lines w0.127: -4.25,-1.8 4.25,-1.8 4.25,1.8 -4.25,1.8 -4.25,-1.8
Mechanical 15:
  lines w0.05: -4.5,-2.25 4.5,-2.25 4.5,2.25 -4.5,2.25 -4.5,-2.25
3D body "JS102011JCQN--3DModel-STEP-56544.STEP": height 5.38, standoff -0.02, extent -4.225,-1.905 4.275,2.095